# EAGLE library part KK-156-8 (library Custom)
KK 156 HEADER Source: http://www.molex.com/pdm_docs/sd/026604100_sd.pdf
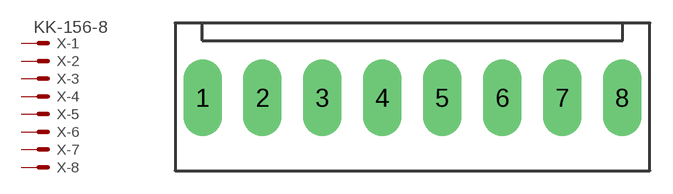
[diagram p5: symbol with the pads of KK-156-8; footprint KK-156-8]

Designator prefix X; gates -1=MV -2=M -3=M -4=M -5=M -6=M -7=M -8=M

## KK-156-8 (OC_FARNELL: unknown; OC_NEWARK: unknown)  [KK-156-8]
1  -1:S  pas
2  -2:S  pas
3  -3:S  pas
4  -4:S  pas
5  -5:S  pas
6  -6:S  pas
7  -7:S  pas
8  -8:S  pas

## Footprint KK-156-8 (pad centres in mm)
KK 156 HEADER Source: http://www.molex.com/pdm_docs/sd/026604100_sd.pdf
drill 1.7 pad 2.184 long: 1 -13.86,0; 2 -9.9,0; 3 -5.94,0; 4 -1.98,0; 5 1.98,0; 6 5.94,0; 7 9.9,0; 8 13.86,0